# Altium footprint library PHD.PcbLib: 19 footprints (part 1 of 2)
Each footprint in its own frame and in the unit in brackets; x right, y up, seen from the top. Pads: shape width x height; smd on the part's side, far side on the other; paste and mask are expansions set on the pad; w line width, h text height; cw(c..) or ccw(c..) is an arc to the next point about the centre after c.
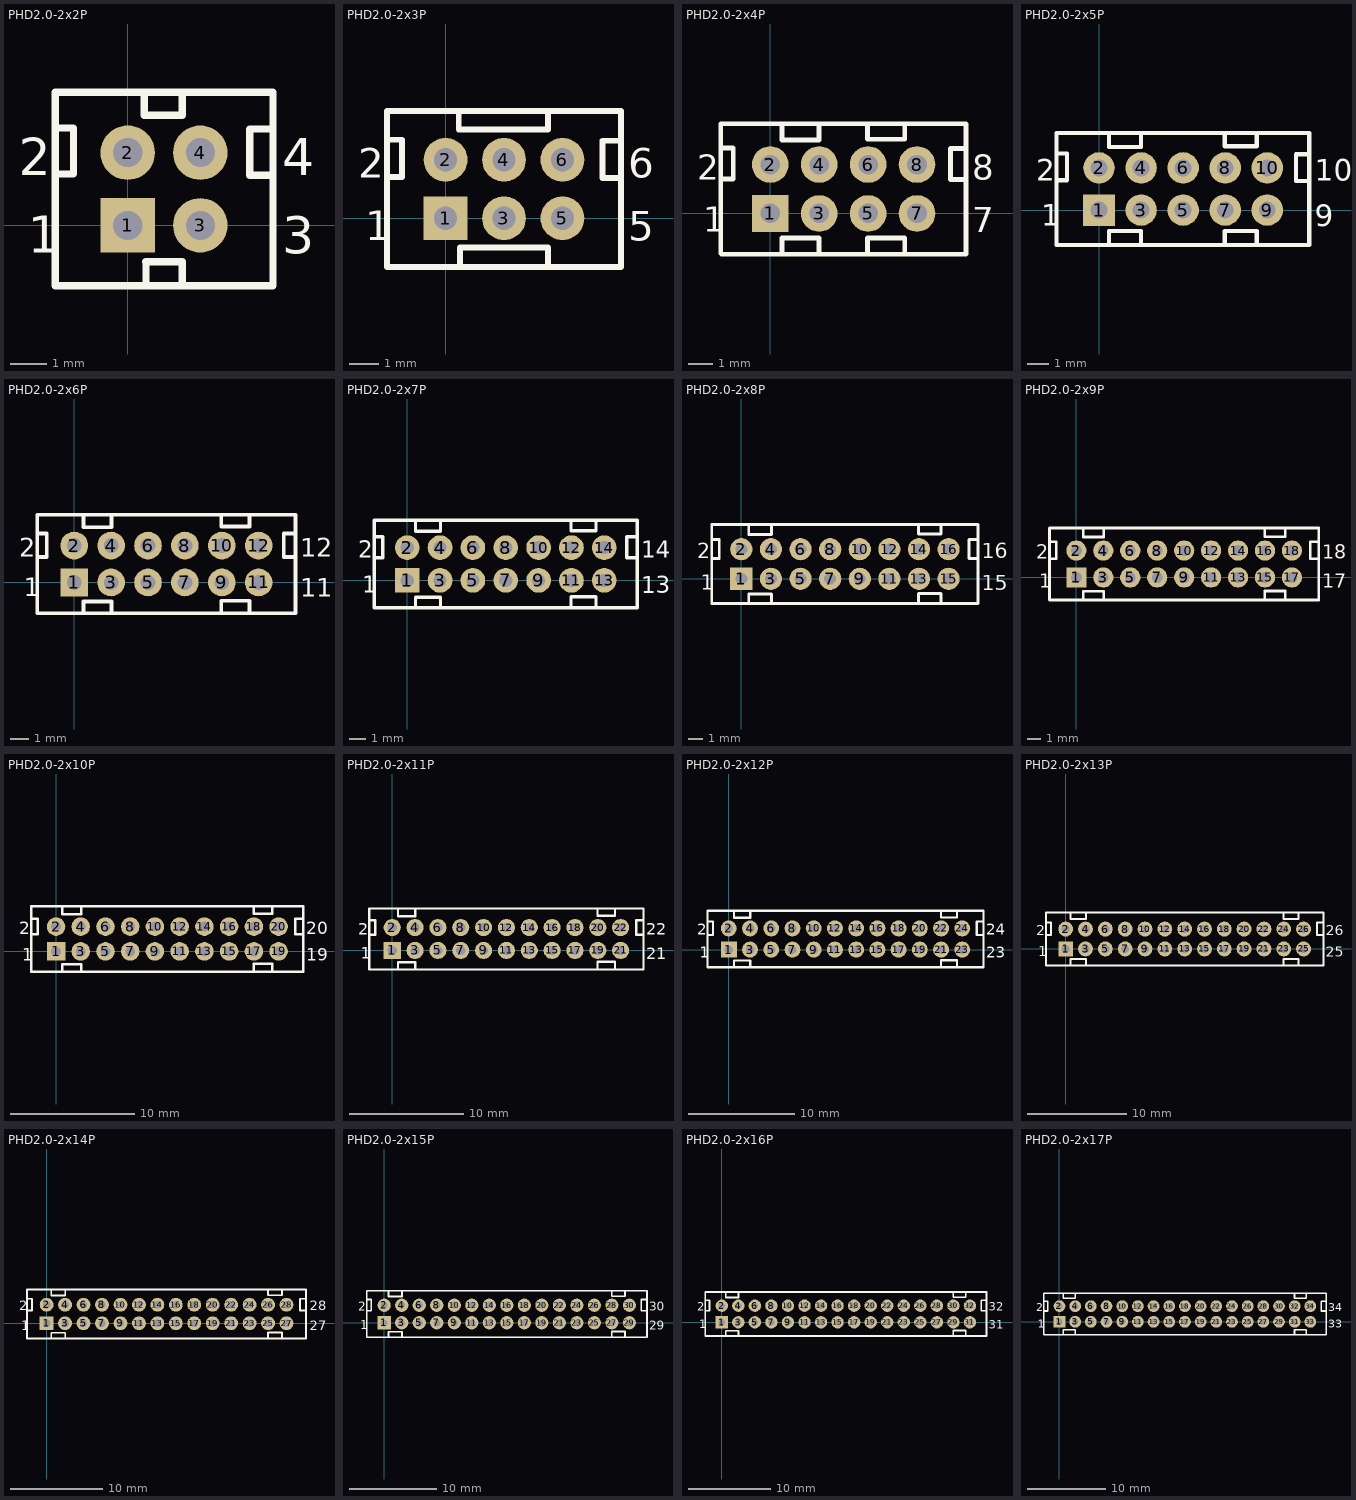
[diagram p0: the footprints below, top view; thin cyan lines are the x and y axes]

## PHD2.0-2x2P [mm]
pads (4):
  rect 1.5x1.5 hole 0.8: 1(0,0)
  round 1.5 hole 0.8: 2(0,2) 3(2,0) 4(2,2)
Top Overlay:
  lines w0.2: -2,-1.667 4,-1.667 4,3.667 -2,3.667 -2,-1.635 ; -2,1.413 -1.492,1.413 -1.492,2.683 -2,2.683 ; 0.452,3.032 0.452,3.667 ; 0.5,-1.635 0.5,-1 ; 1.5,-1.667 1.5,-1 ; 1.5,3.032 1.5,3.667 ; 4,1.381 3.365,1.381 3.365,2.651 4,2.651
  lines w0.203: 0.452,3.032 1.5,3.032 ; 0.5,-1 1.5,-1
  text "1" at -2.75,-0.75 h1.02
  text "2" at -2.996,1.381 h1.02
  text "4" at 4.254,1.381 h1.02
  text "3" at 4.254,-0.778 h1.02
Bottom Overlay:
  lines w0.381: -0.5,1 2.5,1 ; 1,-0.5 1,2.5
3D body "PHD2.0-LI-2x2P.STEP": height 6.55, standoff -2.75, extent -2,-1.5 4,3.5

## PHD2.0-2x3P [mm]
pads (6):
  rect 1.5x1.5 hole 0.8: 1(0,0)
  round 1.5 hole 0.8: 2(0,2) 3(2,0) 4(2,2) 5(4,0) 6(4,2)
Top Overlay:
  lines w0.2: -2,-1.667 6,-1.667 6,3.667 -2,3.667 -2,-1.635 ; -2,1.413 -1.492,1.413 -1.492,2.683 -2,2.683 ; 0.452,3.667 0.452,3.032 3.5,3.032 3.5,3.667 ; 0.5,-1.635 0.5,-1 2.024,-1 ; 1.976,-1 3.5,-1 3.5,-1.667 ; 6,1.381 5.365,1.381 5.365,2.651 6,2.651
  text "2" at -2.996,1.381 h1.02
  text "1" at -2.75,-0.75 h1.02
  text "6" at 6.254,1.381 h1.02
  text "5" at 6.254,-0.778 h1.02
Bottom Overlay:
  lines w0.381: -0.5,1 4.5,1 ; 1,-0.5 1,2.5 ; 3,-0.5 3,2.5
3D body "PHD2.0-LI-2x3P.STEP": height 6.55, standoff -2.75, extent -2,-1.5 6,3.5

## PHD2.0-2x4P [mm]
pads (8):
  rect 1.5x1.5 hole 0.8: 1(0,0)
  round 1.5 hole 0.8: 2(0,2) 3(2,0) 4(2,2) 5(4,0) 6(4,2) 7(6,0) 8(6,2)
Top Overlay:
  lines w0.2: -2.024,-1.635 -2.024,3.667 8,3.667 8,-1.667 -2,-1.667 ; -2.024,1.413 -1.516,1.413 -1.516,2.683 -2.024,2.683 ; 0.476,-1.635 0.476,-1 2,-1 2,-1.635 ; 0.476,3.667 0.476,3 2,3 2,3.667 ; 3.976,-1.667 3.976,-1 5.5,-1 5.5,-1.667 ; 3.976,3.667 3.976,3.032 5.5,3.032 5.5,3.667 ; 8,1.381 7.365,1.381 7.365,2.651 8,2.651
  text "8" at 8.254,1.381 h1.02
  text "7" at 8.254,-0.778 h1.02
  text "1" at -2.75,-0.75 h1.02
  text "2" at -2.996,1.381 h1.02
Bottom Overlay:
  lines w0.381: -0.5,1 6.5,1 ; 1,-0.5 1,2.5 ; 3,-0.5 3,2.5 ; 5,-0.5 5,2.5
3D body "PHD2.0-LI-2x4P.STEP": height 6.55, standoff -2.75, extent -2,-1.5 8,3.5

## PHD2.0-2x5P [mm]
pads (10):
  rect 1.5x1.5 hole 0.8: 1(0,0)
  round 1.5 hole 0.8: 2(0,2) 3(2,0) 4(2,2) 5(4,0) 6(4,2) 7(6,0) 8(6,2) 9(8,0) 10(8,2)
Top Overlay:
  lines w0.2: -2.024,-1.667 10,-1.667 10,3.667 -2.024,3.667 -2.024,-1.635 ; -2.024,1.413 -1.516,1.413 -1.516,2.683 -2.024,2.683 ; 0.476,-1.635 0.476,-1 2,-1 2,-1.635 ; 0.476,3.667 0.476,3 2,3 2,3.667 ; 5.976,-1.667 5.976,-1 7.5,-1 7.5,-1.667 ; 5.976,3.667 5.976,3.032 7.5,3.032 7.5,3.667 ; 10,1.381 9.365,1.381 9.365,2.651 10,2.651
  text "9" at 10.254,-0.778 h1.02
  text "10" at 10.254,1.381 h1.02
  text "1" at -2.75,-0.75 h1.02
  text "2" at -2.996,1.381 h1.02
Bottom Overlay:
  lines w0.381: -0.5,1 8.5,1 ; 1,-0.5 1,2.5 ; 3,-0.5 3,2.5 ; 5,-0.5 5,2.5 ; 7,-0.5 7,2.5
3D body "PHD2.0-LI-2x5P.STEP": height 6.55, standoff -2.75, extent -2,-1.5 10,3.5

## PHD2.0-2x6P [mm]
pads (12):
  rect 1.5x1.5 hole 0.8: 1(0,0)
  round 1.5 hole 0.8: 2(0,2) 3(2,0) 4(2,2) 5(4,0) 6(4,2) 7(6,0) 8(6,2) 9(8,0) 10(8,2) 11(10,0) 12(10,2)
Top Overlay:
  lines w0.2: -2,1.381 -1.492,1.381 -1.492,2.651 -2,2.651 ; 0.5,-1.667 0.5,-1.032 2.024,-1.032 2.024,-1.667 ; 0.5,3.667 0.5,3 2.024,3 2.024,3.667 ; 7.976,-1.667 7.976,-1 9.5,-1 9.5,-1.667 ; 7.976,3.667 7.976,3.032 9.5,3.032 9.5,3.667 ; 12,1.381 11.365,1.381 11.365,2.651 12,2.651 ; -2,-1.667 12,-1.667 12,3.667 -2,3.667 -2,-1.667
  text "2" at -2.996,1.381 h1.02
  text "1" at -2.75,-0.75 h1.02
  text "12" at 12.254,1.381 h1.02
  text "11" at 12.254,-0.778 h1.02
Bottom Overlay:
  lines w0.381: 0,1 10.5,1 ; 1,-0.5 1,2.5 ; 3,-0.5 3,2.5 ; 5,-0.5 5,2.5 ; 7,-0.5 7,2.5 ; 9,-0.5 9,2.5
3D body "PHD2.0-LI-2x6P.STEP": height 6.55, standoff -2.75, extent -2,-1.5 12,3.5

## PHD2.0-2x7P [mm]
pads (14):
  rect 1.5x1.5 hole 0.8: 1(0,0)
  round 1.5 hole 0.8: 2(0,2) 3(2,0) 4(2,2) 5(4,0) 6(4,2) 7(6,0) 8(6,2) 9(8,0) 10(8,2) 11(10,0) 12(10,2) 13(12,0) 14(12,2)
Top Overlay:
  lines w0.2: -2,1.381 -1.492,1.381 -1.492,2.651 -2,2.651 ; 0.5,-1.667 0.5,-1.032 2.024,-1.032 2.024,-1.667 ; 0.5,3.667 0.5,3 2.024,3 2.024,3.667 ; 9.976,-1.667 9.976,-1 11.5,-1 11.5,-1.667 ; 9.976,3.667 9.976,3.032 11.5,3.032 11.5,3.667 ; 14,1.381 13.365,1.381 13.365,2.651 14,2.651 ; -2,-1.667 -2,3.667 14,3.667 14,-1.667 -2,-1.667
  text "13" at 14.254,-0.778 h1.02
  text "14" at 14.254,1.381 h1.02
  text "1" at -2.75,-0.75 h1.02
  text "2" at -2.996,1.381 h1.02
Bottom Overlay:
  lines w0.381: -0.5,1 12.5,1 ; 1,-0.5 1,2.5 ; 3,-0.5 3,2.5 ; 5,-0.5 5,2.5 ; 7,-0.5 7,2.5 ; 9,-0.5 9,2.5 ; 11,-0.5 11,2.5
3D body "PHD2.0-LI-2x7P.STEP": height 6.55, standoff -2.75, extent -2,-1.5 14,3.5

## PHD2.0-2x8P [mm]
pads (16):
  rect 1.5x1.5 hole 0.8: 1(0,0)
  round 1.5 hole 0.8: 2(0,2) 3(2,0) 4(2,2) 5(4,0) 6(4,2) 7(6,0) 8(6,2) 9(8,0) 10(8,2) 11(10,0) 12(10,2) 13(12,0) 14(12,2) 15(14,0) 16(14,2)
Top Overlay:
  lines w0.2: -2,1.381 -1.492,1.381 -1.492,2.651 -2,2.651 ; 0.5,-1.667 0.5,-1.032 2.024,-1.032 2.024,-1.667 ; 0.5,3.667 0.5,3 2.024,3 2.024,3.667 ; 11.976,-1.667 11.976,-1 13.5,-1 13.5,-1.667 ; 11.976,3.667 11.976,3.032 13.5,3.032 13.5,3.667 ; 16,1.381 15.365,1.381 15.365,2.651 16,2.651 ; -2,-1.667 -2,3.667 16,3.667 16,-1.667 -2,-1.667
  text "15" at 16.254,-0.778 h1.02
  text "16" at 16.254,1.381 h1.02
  text "1" at -2.75,-0.75 h1.02
  text "2" at -2.996,1.381 h1.02
Bottom Overlay:
  lines w0.381: -0.5,1 14.5,1 ; 1,-0.5 1,2.5 ; 3,-0.5 3,2.5 ; 5,-0.5 5,2.5 ; 7,-0.5 7,2.5 ; 9,-0.5 9,2.5 ; 11,-0.5 11,2.5 ; 13,-0.5 13,2.5
3D body "PHD2.0-LI-2x8P.STEP": height 6.55, standoff -2.75, extent -2,-1.5 16,3.5

## PHD2.0-2x9P [mm]
pads (18):
  rect 1.5x1.5 hole 0.8: 1(0,0)
  round 1.5 hole 0.8: 2(0,2) 3(2,0) 4(2,2) 5(4,0) 6(4,2) 7(6,0) 8(6,2) 9(8,0) 10(8,2) 11(10,0) 12(10,2) 13(12,0) 14(12,2) 15(14,0) 16(14,2) 17(16,0) 18(16,2)
Top Overlay:
  lines w0.2: -2,1.381 -1.492,1.381 -1.492,2.651 -2,2.651 ; 0.5,-1.667 0.5,-1.032 2.024,-1.032 2.024,-1.667 ; 0.5,3.667 0.5,3 2.024,3 2.024,3.667 ; 13.976,-1.667 13.976,-1 15.5,-1 15.5,-1.667 ; 13.976,3.667 13.976,3.032 15.5,3.032 15.5,3.667 ; 18,1.381 17.365,1.381 17.365,2.651 18,2.651 ; -2,-1.667 -2,3.667 18,3.667 18,-1.667 -2,-1.667
  text "2" at -2.996,1.381 h1.02
  text "1" at -2.75,-0.75 h1.02
  text "17" at 18.254,-0.778 h1.02
  text "18" at 18.254,1.381 h1.02
Bottom Overlay:
  lines w0.381: -0.5,1 16.5,1 ; 1,-0.5 1,2.5 ; 3,-0.5 3,2.5 ; 5,-0.5 5,2.5 ; 7,-0.5 7,2.5 ; 9,-0.5 9,2.5 ; 11,-0.5 11,2.5 ; 13,-0.5 13,2.5 ; 15,-0.5 15,2.5
3D body "PHD2.0-LI-2x9P.STEP": height 6.55, standoff -2.75, extent -2,-1.5 18,3.5

## PHD2.0-2x10P [mm]
pads (20):
  rect 1.5x1.5 hole 0.8: 1(0,0)
  round 1.5 hole 0.8: 2(0,2) 3(2,0) 4(2,2) 5(4,0) 6(4,2) 7(6,0) 8(6,2) 9(8,0) 10(8,2) 11(10,0) 12(10,2) 13(12,0) 14(12,2) 15(14,0) 16(14,2) 17(16,0) 18(16,2) 19(18,0) 20(18,2)
Top Overlay:
  lines w0.2: -2,1.381 -1.492,1.381 -1.492,2.651 -2,2.651 ; 0.5,-1.667 0.5,-1.032 2.024,-1.032 2.024,-1.667 ; 0.5,3.667 0.5,3 2.024,3 2.024,3.667 ; 15.976,-1.667 15.976,-1 17.5,-1 17.5,-1.667 ; 15.976,3.667 15.976,3.032 17.5,3.032 17.5,3.667 ; 20,1.381 19.365,1.381 19.365,2.651 20,2.651 ; -2,-1.667 20,-1.667 20,3.667 -2,3.667 -2,-1.667
  text "20" at 20.254,1.381 h1.02
  text "19" at 20.254,-0.778 h1.02
  text "1" at -2.75,-0.75 h1.02
  text "2" at -2.996,1.381 h1.02
Bottom Overlay:
  lines w0.381: -0.5,1 18.5,1 ; 1,-0.5 1,2.5 ; 3,-0.5 3,2.5 ; 5,-0.5 5,2.5 ; 7,-0.5 7,2.5 ; 9,-0.5 9,2.5 ; 11,-0.5 11,2.5 ; 13,-0.5 13,2.5 ; 15,-0.5 15,2.5 ; 17,-0.5 17,2.5
3D body "PHD2.0-LI-2x10P.STEP": height 6.55, standoff -2.75, extent -2,-1.5 20,3.5

## PHD2.0-2x11P [mm]
pads (22):
  rect 1.5x1.5 hole 0.8: 1(0,0)
  round 1.5 hole 0.8: 2(0,2) 3(2,0) 4(2,2) 5(4,0) 6(4,2) 7(6,0) 8(6,2) 9(8,0) 10(8,2) 11(10,0) 12(10,2) 13(12,0) 14(12,2) 15(14,0) 16(14,2) 17(16,0) 18(16,2) 19(18,0) 20(18,2) 21(20,0) 22(20,2)
Top Overlay:
  lines w0.2: -2,1.381 -1.492,1.381 -1.492,2.651 -2,2.651 ; 0.5,-1.667 0.5,-1.032 2.024,-1.032 2.024,-1.667 ; 0.5,3.667 0.5,3 2.024,3 2.024,3.667 ; 17.976,-1.667 17.976,-1 19.5,-1 19.5,-1.667 ; 17.976,3.667 17.976,3.032 19.5,3.032 19.5,3.667 ; 22,1.381 21.365,1.381 21.365,2.651 22,2.651 ; -2,-1.667 22,-1.667 22,3.667 -2,3.667 -2,-1.667
  text "22" at 22.254,1.381 h1.02
  text "21" at 22.254,-0.778 h1.02
  text "1" at -2.75,-0.75 h1.02
  text "2" at -2.996,1.381 h1.02
Bottom Overlay:
  lines w0.381: -0.5,1 20.5,1 ; 1,-0.5 1,2.5 ; 3,-0.5 3,2.5 ; 5,-0.5 5,2.5 ; 7,-0.5 7,2.5 ; 9,-0.5 9,2.5 ; 11,-0.5 11,2.5 ; 13,-0.5 13,2.5 ; 15,-0.5 15,2.5 ; 17,-0.5 17,2.5 ; 19,-0.5 19,2.5
3D body "PHD2.0-LI-2x11P.STEP": height 6.55, standoff -2.75, extent -2,-1.5 22,3.5

## PHD2.0-2x12P [mm]
pads (24):
  rect 1.5x1.5 hole 0.8: 1(0,0)
  round 1.5 hole 0.8: 2(0,2) 3(2,0) 4(2,2) 5(4,0) 6(4,2) 7(6,0) 8(6,2) 9(8,0) 10(8,2) 11(10,0) 12(10,2) 13(12,0) 14(12,2) 15(14,0) 16(14,2) 17(16,0) 18(16,2) 19(18,0) 20(18,2) 21(20,0) 22(20,2) 23(22,0) 24(22,2)
Top Overlay:
  lines w0.2: -2,1.381 -1.492,1.381 -1.492,2.651 -2,2.651 ; 0.5,-1.667 0.5,-1.032 2.024,-1.032 2.024,-1.667 ; 0.5,3.667 0.5,3 2.024,3 2.024,3.667 ; 19.976,-1.667 19.976,-1 21.5,-1 21.5,-1.667 ; 19.976,3.667 19.976,3.032 21.5,3.032 21.5,3.667 ; 24,1.381 23.365,1.381 23.365,2.651 24,2.651 ; -2,-1.667 -2,3.667 24,3.667 24,-1.667 -2,-1.667
  text "23" at 24.254,-0.778 h1.02
  text "24" at 24.254,1.381 h1.02
  text "1" at -2.75,-0.75 h1.02
  text "2" at -2.996,1.381 h1.02
Bottom Overlay:
  lines w0.381: -0.5,1 22.5,1 ; 1,-0.5 1,2.5 ; 3,-0.5 3,2.5 ; 5,-0.5 5,2.5 ; 7,-0.5 7,2.5 ; 9,-0.5 9,2.5 ; 11,-0.5 11,2.5 ; 13,-0.5 13,2.5 ; 15,-0.5 15,2.5 ; 17,-0.5 17,2.5 ; 19,-0.5 19,2.5 ; 21,-0.5 21,2.5
3D body "PHD2.0-LI-2x12P.STEP": height 6.55, standoff -2.75, extent -2,-1.5 24,3.5

## PHD2.0-2x13P [mm]
pads (26):
  rect 1.5x1.5 hole 0.8: 1(0,0)
  round 1.5 hole 0.8: 2(0,2) 3(2,0) 4(2,2) 5(4,0) 6(4,2) 7(6,0) 8(6,2) 9(8,0) 10(8,2) 11(10,0) 12(10,2) 13(12,0) 14(12,2) 15(14,0) 16(14,2) 17(16,0) 18(16,2) 19(18,0) 20(18,2) 21(20,0) 22(20,2) 23(22,0) 24(22,2) 25(24,0) 26(24,2)
Top Overlay:
  lines w0.2: -2,1.381 -1.492,1.381 -1.492,2.651 -2,2.651 ; 0.5,-1.667 0.5,-1.032 2.024,-1.032 2.024,-1.667 ; 0.5,3.667 0.5,3 2.024,3 2.024,3.667 ; 21.976,-1.667 21.976,-1 23.5,-1 23.5,-1.667 ; 21.976,3.667 21.976,3.032 23.5,3.032 23.5,3.667 ; 26,1.381 25.365,1.381 25.365,2.651 26,2.651 ; -2,-1.667 -2,3.667 26,3.667 26,-1.667 -2,-1.667
  text "2" at -2.996,1.381 h1.02
  text "1" at -2.75,-0.75 h1.02
  text "25" at 26.254,-0.778 h1.02
  text "26" at 26.254,1.381 h1.02
Bottom Overlay:
  lines w0.381: -0.5,1 24.5,1 ; 1,-0.5 1,2.5 ; 3,-0.5 3,2.5 ; 5,-0.5 5,2.5 ; 7,-0.5 7,2.5 ; 9,-0.5 9,2.5 ; 11,-0.5 11,2.5 ; 13,-0.5 13,2.5 ; 15,-0.5 15,2.5 ; 17,-0.5 17,2.5 ; 19,-0.5 19,2.5 ; 21,-0.5 21,2.5 ; 23,-0.5 23,2.5
3D body "PHD2.0-LI-2x13P.STEP": height 6.55, standoff -2.75, extent -2,-1.5 26,3.5

## PHD2.0-2x14P [mm]
pads (28):
  rect 1.5x1.5 hole 0.8: 1(0,0)
  round 1.5 hole 0.8: 2(0,2) 3(2,0) 4(2,2) 5(4,0) 6(4,2) 7(6,0) 8(6,2) 9(8,0) 10(8,2) 11(10,0) 12(10,2) 13(12,0) 14(12,2) 15(14,0) 16(14,2) 17(16,0) 18(16,2) 19(18,0) 20(18,2) 21(20,0) 22(20,2) 23(22,0) 24(22,2) 25(24,0) 26(24,2) 27(26,0) 28(26,2)
Top Overlay:
  lines w0.2: -2.113,1.381 -1.605,1.381 -1.605,2.651 -2.113,2.651 ; 0.5,-1.667 0.5,-1.032 2.024,-1.032 2.024,-1.667 ; 0.5,3.667 0.5,3 2.024,3 2.024,3.667 ; 23.976,-1.667 23.976,-1 25.5,-1 25.5,-1.667 ; 23.976,3.667 23.976,3.032 25.5,3.032 25.5,3.667 ; 28.113,1.381 27.478,1.381 27.478,2.651 28.113,2.651 ; -2.113,-1.667 -2.113,3.667 28.113,3.667 28.113,-1.667 -2.113,-1.667
  text "2" at -2.996,1.381 h1.02
  text "1" at -2.75,-0.75 h1.02
  text "28" at 28.504,1.381 h1.02
  text "27" at 28.504,-0.778 h1.02
Bottom Overlay:
  lines w0.381: -0.5,1 26.5,1 ; 1,-0.5 1,2.5 ; 3,-0.5 3,2.5 ; 5,-0.5 5,2.5 ; 7,-0.5 7,2.5 ; 9,-0.5 9,2.5 ; 11,-0.5 11,2.5 ; 13,-0.5 13,2.5 ; 15,-0.5 15,2.5 ; 17,-0.5 17,2.5 ; 19,-0.5 19,2.5 ; 21,-0.5 21,2.5 ; 23,-0.5 23,2.5 ; 25,-0.5 25,2.5
3D body "PHD2.0-LI-2x14P.STEP": height 6.55, standoff -2.75, extent -2,-1.5 28,3.5

## PHD2.0-2x15P [mm]
pads (30):
  rect 1.5x1.5 hole 0.8: 1(0,0)
  round 1.5 hole 0.8: 2(0,2) 3(2,0) 4(2,2) 5(4,0) 6(4,2) 7(6,0) 8(6,2) 9(8,0) 10(8,2) 11(10,0) 12(10,2) 13(12,0) 14(12,2) 15(14,0) 16(14,2) 17(16,0) 18(16,2) 19(18,0) 20(18,2) 21(20,0) 22(20,2) 23(22,0) 24(22,2) 25(24,0) 26(24,2) 27(26,0) 28(26,2) 29(28,0) 30(28,2)
Top Overlay:
  lines w0.2: -2,1.381 -1.492,1.381 -1.492,2.651 -2,2.651 ; 0.5,-1.667 0.5,-1.032 2.024,-1.032 2.024,-1.667 ; 0.5,3.667 0.5,3 2.024,3 2.024,3.667 ; 25.976,-1.667 25.976,-1 27.5,-1 27.5,-1.667 ; 25.976,3.667 25.976,3.032 27.5,3.032 27.5,3.667 ; 30,1.381 29.365,1.381 29.365,2.651 30,2.651 ; -2,-1.667 30,-1.667 30,3.667 -2,3.667 -2,-1.667
  text "2" at -2.996,1.381 h1.02
  text "1" at -2.75,-0.75 h1.02
  text "30" at 30.254,1.381 h1.02
  text "29" at 30.254,-0.778 h1.02
Bottom Overlay:
  lines w0.381: -0.5,1 28.5,1 ; 1,-0.5 1,2.5 ; 3,-0.5 3,2.5 ; 5,-0.5 5,2.5 ; 7,-0.5 7,2.5 ; 9,-0.5 9,2.5 ; 11,-0.5 11,2.5 ; 13,-0.5 13,2.5 ; 15,-0.5 15,2.5 ; 17,-0.5 17,2.5 ; 19,-0.5 19,2.5 ; 21,-0.5 21,2.5 ; 23,-0.5 23,2.5 ; 25,-0.5 25,2.5 ; 27,-0.5 27,2.5
3D body "PHD2.0-LI-2x15P.STEP": height 6.55, standoff -2.75, extent -2,-1.5 30,3.5

## PHD2.0-2x16P [mm]
pads (32):
  rect 1.5x1.5 hole 0.8: 1(0,0)
  round 1.5 hole 0.8: 2(0,2) 3(2,0) 4(2,2) 5(4,0) 6(4,2) 7(6,0) 8(6,2) 9(8,0) 10(8,2) 11(10,0) 12(10,2) 13(12,0) 14(12,2) 15(14,0) 16(14,2) 17(16,0) 18(16,2) 19(18,0) 20(18,2) 21(20,0) 22(20,2) 23(22,0) 24(22,2) 25(24,0) 26(24,2) 27(26,0) 28(26,2) 29(28,0) 30(28,2) 31(30,0) 32(30,2)
Top Overlay:
  lines w0.2: -2,1.381 -1.492,1.381 -1.492,2.651 -2,2.651 ; 0.5,-1.667 0.5,-1.032 2.024,-1.032 2.024,-1.667 ; 0.5,3.667 0.5,3 2.024,3 2.024,3.667 ; 27.976,-1.667 27.976,-1 29.5,-1 29.5,-1.667 ; 27.976,3.667 27.976,3.032 29.5,3.032 29.5,3.667 ; 32,1.381 31.365,1.381 31.365,2.651 32,2.651 ; -2,-1.667 -2,3.667 32,3.667 32,-1.667 -2,-1.667
  text "2" at -2.996,1.381 h1.02
  text "1" at -2.75,-0.75 h1.02
  text "31" at 32.254,-0.778 h1.02
  text "32" at 32.254,1.381 h1.02
Bottom Overlay:
  lines w0.381: -0.5,1 30.5,1 ; 1,-0.5 1,2.5 ; 3,-0.5 3,2.5 ; 5,-0.5 5,2.5 ; 7,-0.5 7,2.5 ; 9,-0.5 9,2.5 ; 11,-0.5 11,2.5 ; 13,-0.5 13,2.5 ; 15,-0.5 15,2.5 ; 17,-0.5 17,2.5 ; 19,-0.5 19,2.5 ; 21,-0.5 21,2.5 ; 23,-0.5 23,2.5 ; 25,-0.5 25,2.5 ; 27,-0.5 27,2.5 ; 29,-0.5 29,2.5
3D body "PHD2.0-LI-2x16P.STEP": height 6.55, standoff -2.75, extent -2,-1.5 32,3.5

## PHD2.0-2x17P [mm]
pads (34):
  rect 1.5x1.5 hole 0.8: 1(0,0)
  round 1.5 hole 0.8: 2(0,2) 3(2,0) 4(2,2) 5(4,0) 6(4,2) 7(6,0) 8(6,2) 9(8,0) 10(8,2) 11(10,0) 12(10,2) 13(12,0) 14(12,2) 15(14,0) 16(14,2) 17(16,0) 18(16,2) 19(18,0) 20(18,2) 21(20,0) 22(20,2) 23(22,0) 24(22,2) 25(24,0) 26(24,2) 27(26,0) 28(26,2) 29(28,0) 30(28,2) 31(30,0) 32(30,2) 33(32,0) 34(32,2)
Top Overlay:
  lines w0.2: -2,1.381 -1.492,1.381 -1.492,2.651 -2,2.651 ; 0.476,-1.667 0.476,-1.032 2,-1.032 2,-1.667 ; 0.476,3.667 0.476,3 2,3 2,3.667 ; 29.976,-1.667 29.976,-1 31.5,-1 31.5,-1.667 ; 29.976,3.667 29.976,3.032 31.5,3.032 31.5,3.667 ; 34,1.381 33.365,1.381 33.365,2.651 34,2.651 ; -2,-1.667 -2,3.667 34,3.667 34,-1.667 -2,-1.667
  text "33" at 34.254,-0.778 h1.02
  text "34" at 34.254,1.381 h1.02
  text "1" at -2.75,-0.75 h1.02
  text "2" at -2.996,1.381 h1.02
Bottom Overlay:
  lines w0.381: -0.5,1 32.5,1 ; 1,-0.5 1,2.5 ; 3,-0.5 3,2.5 ; 5,-0.5 5,2.5 ; 7,-0.5 7,2.5 ; 9,-0.5 9,2.5 ; 11,-0.5 11,2.5 ; 13,-0.5 13,2.5 ; 15,-0.5 15,2.5 ; 17,-0.5 17,2.5 ; 19,-0.5 19,2.5 ; 21,-0.5 21,2.5 ; 23,-0.5 23,2.5 ; 25,-0.5 25,2.5 ; 27,-0.5 27,2.5 ; 29,-0.5 29,2.5 ; 31,-0.5 31,2.5
3D body "PHD2.0-LI-2x17P.STEP": height 6.55, standoff -2.75, extent -2,-1.5 34,3.5